# EAGLE library part TPS74801SON (library xess)
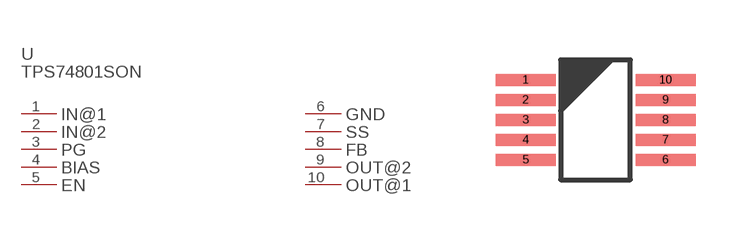
[diagram p86: symbol with the pads of TPS74801SON; footprint TPS74801SON]

Designator prefix U; gates PART_VALUE=PART_VALUE-TPS74801SON IN@1=PL-TPS74801SON IN@2=PL-TPS74801SON PG=PL-TPS74801SON BIAS=PL-TPS74801SON EN=PL-TPS74801SON GND=PL-TPS74801SON SS=PL-TPS74801SON FB=PL-TPS74801SON OUT@2=PL-TPS74801SON OUT@1=PL-TPS74801SON

## TPS74801SON  [TPS74801SON]
1  IN@1:P$1
2  IN@2:P$1
3  PG:P$1
4  BIAS:P$1
5  EN:P$1
6  GND:P$1
7  SS:P$1
8  FB:P$1
9  OUT@2:P$1
10  OUT@1:P$1

## Footprint TPS74801SON (pad centres in mm)
smd 1.5 x 0.3: 1 -0.5,0; 2 -0.5,-0.5; 3 -0.5,-1; 4 -0.5,-1.5; 5 -0.5,-2; 6 3,-2; 7 3,-1.5; 8 3,-1; 9 3,-0.5; 10 3,0